# EAGLE library part AD627 (library analog-devices)
Micropower, Single- and Dual-Supply, Rail-to-Rail Instrumentation Amplifier Source: http://www.analog.com/static/imported-files/data_sheets/AD627.pdf
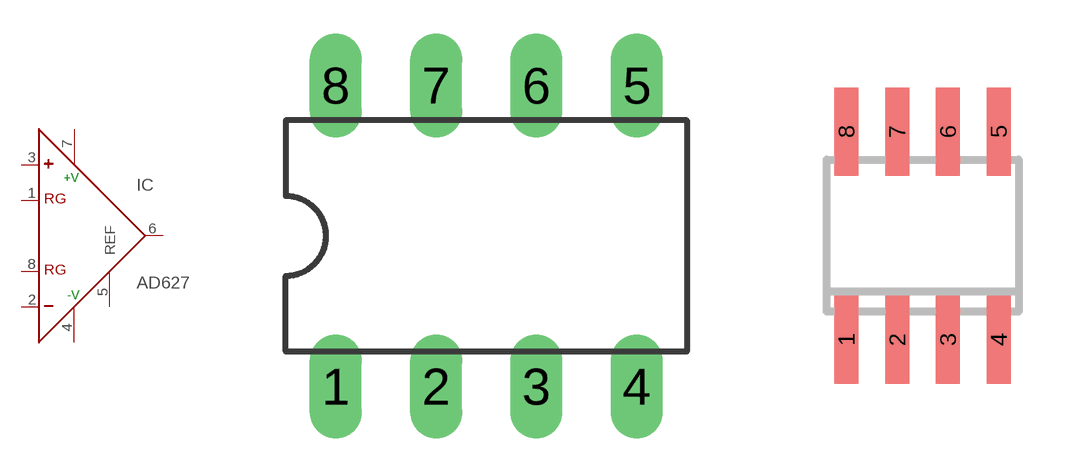
[diagram p27: symbol with the pads of DIL08; footprints DIL08, SO8]

Designator prefix IC

## AD627N (MF: ALTERA CORPORATION; MPN: AD627BNZ; OC_FARNELL: 1438354; OC_NEWARK: 59K4418)  [DIL08]
1  RG  pas
2  -  in
3  +  in
4  -V  pwr
5  REF  pas
6  OUT  out
7  +V  pwr
8  RG  pas

## AD627R (MPN: AD627AR; OC_FARNELL: 1438354; OC_NEWARK: 09B5402)  [SO8]
Pads as for DIL08

## Footprint DIL08 (pad centres in mm)
Dual In Line Package
drill 0.813 long: 1 -3.81,-3.81; 2 -1.27,-3.81; 3 1.27,-3.81; 4 3.81,-3.81; 5 3.81,3.81; 6 1.27,3.81; 7 -1.27,3.81; 8 -3.81,3.81

## Footprint SO8 (pad centres in mm)
SMALL OUTLINE INTEGRATED CIRCUIT SOP-8L Source: http://www.diodes.com/datasheets/ds31262.pdf
smd 0.6 x 2.2: 1 -1.905,-2.6; 2 -0.635,-2.6; 3 0.635,-2.6; 4 1.905,-2.6; 5 1.905,2.6; 6 0.635,2.6; 7 -0.635,2.6; 8 -1.905,2.6